# Altium schematic symbol library Schlib2.SchLib: 1 symbol
Pins are listed as number, name and electrical type; pins without a type are passive.

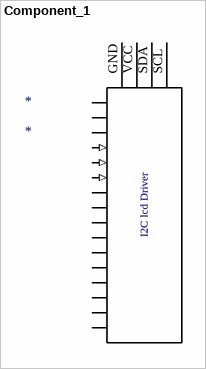
[diagram p0: symbol Component_1]

## Component_1
designator *
pins: 1 (power), 2 (power), 3 (io), 4 (in), 5 (in), 6 (in), 7 (io), 8 (io), 9 (io), 10 (io), 11 (io), 12 (io), 13 (io), 14 (io), 15 (power), 16 (power), GND, SCL, SDA, VCC
text: I2C lcd Driver